# Altium footprint library Aluminum Capacitor.PcbLib: 3 footprints
Each footprint in its own frame and in the unit in brackets; x right, y up, seen from the top. Pads: shape width x height; smd on the part's side, far side on the other; paste and mask are expansions set on the pad; w line width, h text height; cw(c..) or ccw(c..) is an arc to the next point about the centre after c.
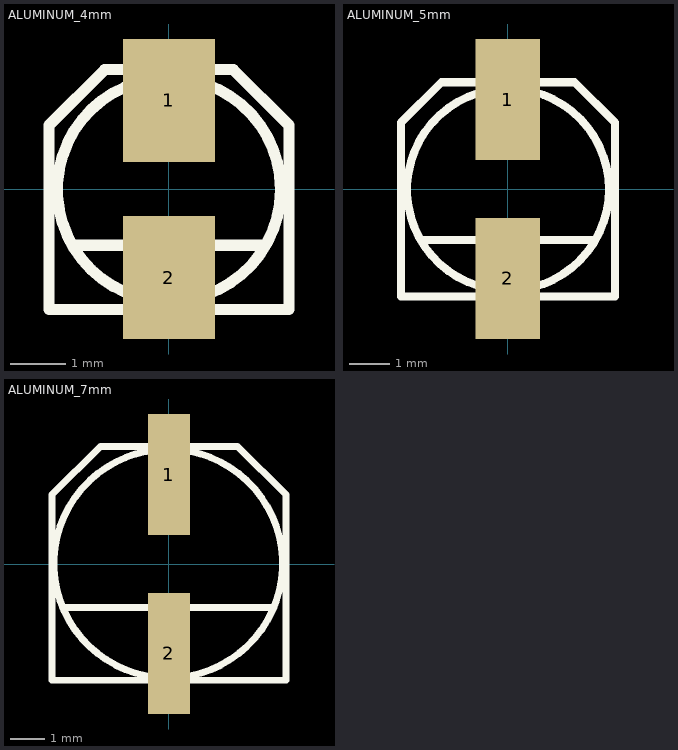
[diagram p0: the footprints below, top view; thin cyan lines are the x and y axes]

## ALUMINUM_4mm [mm] "ALUMINUM CAPACITOR 4mm"
pads (2):
  rect 1.65x2.2 smd: 1(0,1.587) 2(0,-1.587)
Top Overlay:
  lines w0.2: -1.699,-1.008 1.721,-1.008 ; 2.001,-0.013 cw(c0.001,-0.01) 2.001,-0.008 ; -2.15,-2.158 2.151,-2.158 2.151,1.142 1.151,2.142 -1.15,2.142 -2.15,1.142 -2.15,-2.158
3D body "ALUMINUM_4mm.stp": height 5.9, standoff 0.1, extent -2.161,-2.487 2.139,2.513

## ALUMINUM_5mm [mm] "ALUMINUM CAPACITOR 5mm"
pads (2):
  rect 1.6x3 smd: 1(0,2.213) 2(0,-2.213)
Top Overlay:
  lines w0.2: -2.091,-1.258 2.159,-1.258 ; 2.509,-0.014 cw(c0.009,-0.011) 2.509,-0.008 ; -2.641,-2.658 2.659,-2.658 2.659,1.642 1.659,2.642 -1.641,2.642 -2.641,1.642 -2.641,-2.658
3D body "ALUMINUM_5mm.stp": height 5.81, standoff 0.01, extent -2.673,-2.994 2.627,3.006

## ALUMINUM_7mm [mm] "ALUMINUM CAPACITOR 7mm"
pads (2):
  rect 1.2x3.5 smd: 1(0,2.58) 2(0,-2.58)
Top Overlay:
  lines w0.2: -3.071,-1.258 3.025,-1.258 ; -0.027,-3.288 cw(c-0.023,0.012) -0.019,-3.288 ; -3.376,-3.356 3.376,-3.356 3.376,2 1.98,3.396 -1.981,3.396 -3.376,2.001 -3.376,-3.356
3D body "ALUMINUM_7mm.stp": height 5.8, standoff 0, extent -3.323,-3.638 3.277,3.662